# Altium footprint library VNA.PCBLIB: 50 footprints (part 1 of 4)
Each footprint in its own frame and in the unit in brackets; x right, y up, seen from the top. Pads: shape width x height; smd on the part's side, far side on the other; paste and mask are expansions set on the pad; w line width, h text height; cw(c..) or ccw(c..) is an arc to the next point about the centre after c.
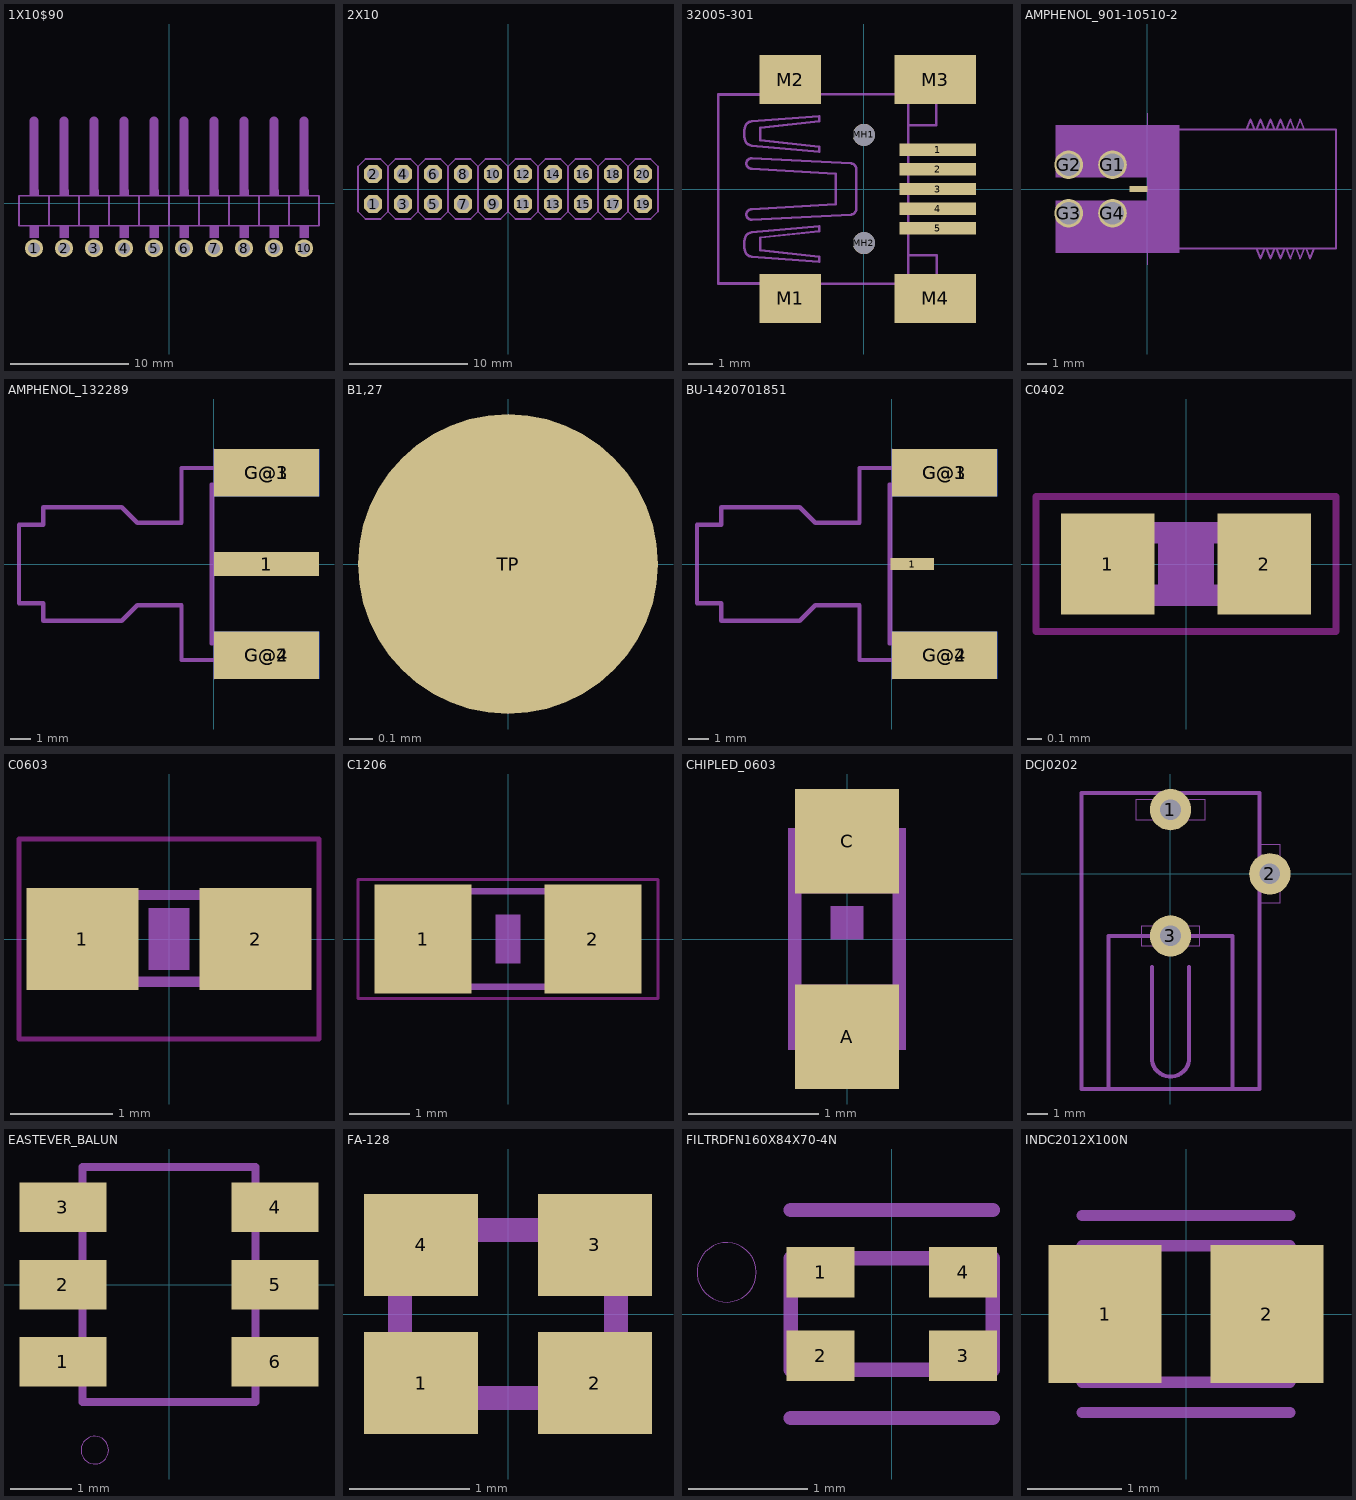
[diagram p0: the footprints below, top view; thin cyan lines are the x and y axes]

## 1X10$90 [mil]
pads (10):
  round 60 hole 40: 1(-450,-150) 2(-350,-150) 3(-250,-150) 4(-150,-150) 5(-50,-150) 6(50,-150) 7(150,-150) 8(250,-150) 9(350,-150) 10(450,-150)
tPlace:
  region: -465,25 -465,45 -435,45 -435,25
  region: -365,25 -365,45 -335,45 -335,25
  region: -265,25 -265,45 -235,45 -235,25
  region: -165,25 -165,45 -135,45 -135,25
  region: -65,25 -65,45 -35,45 -35,25
  region: 35,25 35,45 65,45 65,25
  region: 135,25 135,45 165,45 165,25
  region: 235,25 235,45 265,45 265,25
  region: 335,25 335,45 365,45 365,25
  region: 435,25 435,45 465,45 465,25
  region: -465,-115 -465,-75 -435,-75 -435,-115
  region: -365,-115 -365,-75 -335,-75 -335,-115
  region: -265,-115 -265,-75 -235,-75 -235,-115
  region: -165,-115 -165,-75 -135,-75 -135,-115
  region: -65,-115 -65,-75 -35,-75 -35,-115
  region: 35,-115 35,-75 65,-75 65,-115
  region: 135,-115 135,-75 165,-75 165,-115
  region: 235,-115 235,-75 265,-75 265,-115
  region: 335,-115 335,-75 365,-75 365,-115
  region: 435,-115 435,-75 465,-75 465,-115
  lines w6: -400,-75 -500,-75 -500,25 -400,25 ; -400,-75 -400,25 ; -400,-75 -300,-75 ; -400,25 -300,25 ; -300,-75 -300,25 ; -300,-75 -200,-75 ; -300,25 -200,25 ; -200,-75 -200,25 ; -200,-75 -100,-75 ; -200,25 -100,25 ; -100,-75 -100,25 ; -100,-75 0,-75 ; -100,25 0,25 ; 0,-75 0,25 ; 0,-75 100,-75 ; 0,25 100,25 ; 100,-75 100,25 ; 100,-75 200,-75 ; 100,25 200,25 ; 200,-75 200,25 ; 200,-75 300,-75 ; 200,25 300,25 ; 300,-75 300,25 ; 300,-75 400,-75 ; 300,25 400,25 ; 400,-75 400,25 ; 400,-75 500,-75 500,25 400,25
  lines w30: -450,50 -450,275 ; -350,50 -350,275 ; -250,50 -250,275 ; -150,50 -150,275 ; -50,50 -50,275 ; 50,50 50,275 ; 150,50 150,275 ; 250,50 250,275 ; 350,50 350,275 ; 450,50 450,275

## 2X10 [mil]
pads (20):
  oct 60x60 / inner round 55.43 / far side oct 60x60 hole 40: 1(-450,-50) 2(-450,50) 3(-350,-50) 4(-350,50) 5(-250,-50) 6(-250,50) 7(-150,-50) 8(-150,50) 9(-50,-50) 10(-50,50) 11(50,-50) 12(50,50) 13(150,-50) 14(150,50) 15(250,-50) 16(250,50) 17(350,-50) 18(350,50) 19(450,-50) 20(450,50)
tDocu:
  region: -460,-60 -460,-40 -440,-40 -440,-60
  region: -460,40 -460,60 -440,60 -440,40
  region: -360,40 -360,60 -340,60 -340,40
  region: -360,-60 -360,-40 -340,-40 -340,-60
  region: -260,40 -260,60 -240,60 -240,40
  region: -260,-60 -260,-40 -240,-40 -240,-60
  region: -160,40 -160,60 -140,60 -140,40
  region: -60,40 -60,60 -40,60 -40,40
  region: 40,40 40,60 60,60 60,40
  region: -160,-60 -160,-40 -140,-40 -140,-60
  region: -60,-60 -60,-40 -40,-40 -40,-60
  region: 40,-60 40,-40 60,-40 60,-60
  region: 140,40 140,60 160,60 160,40
  region: 140,-60 140,-40 160,-40 160,-60
  region: 240,40 240,60 260,60 260,40
  region: 240,-60 240,-40 260,-40 260,-60
  region: 340,40 340,60 360,60 360,40
  region: 340,-60 340,-40 360,-40 360,-60
  region: 440,40 440,60 460,60 460,40
  region: 440,-60 440,-40 460,-40 460,-60
tPlace:
  lines w6: -400,-75 -425,-100 -475,-100 -500,-75 -500,75 -475,100 -425,100 -400,75 ; -400,-75 -375,-100 -325,-100 -300,-75 ; -400,-75 -400,75 ; -400,75 -375,100 -325,100 -300,75 ; -300,-75 -275,-100 -225,-100 -200,-75 ; -300,-75 -300,75 ; -300,75 -275,100 -225,100 -200,75 ; -200,-75 -175,-100 -125,-100 -100,-75 ; -200,-75 -200,75 ; -200,75 -175,100 -125,100 -100,75 ; -100,-75 -75,-100 -25,-100 0,-75 ; -100,-75 -100,75 ; -100,75 -75,100 -25,100 0,75 ; 0,-75 25,-100 75,-100 100,-75 ; 0,-75 0,75 ; 0,75 25,100 75,100 100,75 ; 100,-75 125,-100 175,-100 200,-75 ; 100,-75 100,75 ; 100,75 125,100 175,100 200,75 ; 200,-75 225,-100 275,-100 300,-75 ; 200,-75 200,75 ; 200,75 225,100 275,100 300,75 ; 300,-75 325,-100 375,-100 400,-75 ; 300,-75 300,75 ; 300,75 325,100 375,100 400,75 ; 400,-75 400,75 ; 400,-75 425,-100 475,-100 500,-75 500,75 475,100 425,100 400,75

## 32005-301 [mm]
pads (11):
  rect 3.1x0.5 smd: 1(3,1.6) 2(3,0.8) 3(3,0) 4(3,-0.8) 5(3,-1.6)
  rect 2.5x2 smd: M1(-3,-4.45) M2(-3,4.45)
  rect 3.3x2 smd: M3(2.9,4.45) M4(2.9,-4.45)
  round 0.9 hole 0.9 unplated: MH1(0,2.2) MH2(0,-2.2)
tDocu:
  lines w0.102: -5.923,-3.847 3.16,-3.847 ; -5.923,3.847 3.16,3.847 ; -5.918,-3.841 -3.688,-3.841 -3.688,-4.88 -3.325,-4.88 -3.325,-4.464 -2.702,-4.464 -2.702,-4.88 -2.309,-4.88 -2.309,-3.841 ; -5.918,3.841 -3.688,3.841 -3.688,4.88 -3.325,4.88 -3.325,4.465 -2.702,4.465 -2.702,4.88 -2.309,4.88 -2.309,3.841 ; 1.713,-3.885 1.713,-4.88 2.128,-4.88 2.128,-4.464 2.647,-4.464 2.647,-4.88 3.163,-4.88 3.163,-3.852 ; 1.713,3.886 1.713,4.88 2.128,4.88 2.128,4.465 2.647,4.465 2.647,4.88 3.164,4.88 3.164,3.852 ; 1.81,-3.847 1.81,3.78 ; 2.94,2.599 2.94,3.797 ; 2.957,-3.822 2.957,-2.7
tPlace:
  lines w0.102: -5.923,-3.847 -5.923,3.847 ; -4.415,-3.841 -5.918,-3.841 ; -4.415,3.841 -5.918,3.841 -5.918,-3.841 ; -1.603,-3.847 1.084,-3.847 ; -1.552,3.847 0.983,3.847 ; 1.81,-3.324 1.81,-2.7 2.957,-2.7 2.957,-3.332 ; 1.81,3.324 1.81,2.599 2.94,2.599 2.94,3.324 ; -5.918,-3.841 -5.918,-3.841 ; -4.828,-2.544 ccw(c-4.546,-2.457) -4.568,-2.751 -1.817,-2.959 -1.817,-2.751 -4.205,-2.492 -4.205,-1.973 -1.817,-1.713 -1.817,-1.505 -4.568,-1.765 ccw(c-4.546,-2.059) -4.828,-1.973 ccw(c-3.897,-2.258) -4.828,-2.544 ; -4.828,1.973 cw(c-3.897,2.258) -4.828,2.544 cw(c-4.546,2.457) -4.568,2.751 -1.817,2.959 -1.817,2.751 -4.205,2.492 -4.205,1.973 -1.817,1.713 -1.817,1.505 -4.568,1.765 cw(c-4.546,2.059) -4.828,1.973 ; -4.776,-1.038 ccw(c-4.569,-1.038) -4.568,-1.246 -0.519,-1.038 ccw(c-0.531,-0.818) -0.312,-0.83 -0.312,0.831 ccw(c-0.531,0.819) -0.519,1.038 -4.568,1.246 ccw(c-4.569,1.038) -4.776,1.038 -4.776,1.038 ccw(c-4.569,1.038) -4.568,0.831 -1.142,0.623 -1.142,-0.623 -4.568,-0.83 ccw(c-4.568,-1.038) -4.776,-1.038

## AMPHENOL_901-10510-2 [mm]
pads (5):
  round 1.44 hole 1.14: G1(-1.75,1.22) G2(-3.96,1.22) G3(-3.96,-1.22) G4(-1.75,-1.22)
  rect 0.9x0.3 smd: S(-0.45,0)
Top Solder:
  region: -5.6,0.4 -5.6,4.1 0,4.1 0,0.4
  region: -5.6,-4.1 -5.6,-0.4 0,-0.4 0,-4.1
Dimension:
  lines w0: 0,-3.81 0,3.81
tDocu:
  region: 0,-3.2 0,3.2 1.6,3.2 1.6,-3.2
  region: -4.6,0.6 -4.6,3.2 0,3.2 0,0.6
  region: -4.6,-3.2 -4.6,-0.6 0,-0.6 0,-3.2
  lines w0.1: 0,-3 9.5,-3 9.5,1.5 9.5,3 5.4,3 ; 0,3 5,3 ; 5.5,-3 5.7,-3.5 5.9,-3 ; 5.5,3 5.7,3.5 5.9,3 ; 6,-3 6.2,-3.5 6.4,-3 ; 6,3 6.2,3.5 6.4,3 ; 6.5,-3 6.7,-3.5 6.9,-3 ; 6.5,3 6.7,3.5 6.9,3 ; 7,-3 7.2,-3.5 7.4,-3 ; 7,3 7.2,3.5 7.4,3 ; 7.5,-3 7.7,-3.5 7.9,-3 ; 7.5,3 7.7,3.5 7.9,3 ; 8,-3 8.2,-3.5 8.4,-3 ; 5,3 5.4,3 ; 5,3 5.2,3.5 5.4,3
  lines w0.25: -0.7,0 0,0

## AMPHENOL_132289 [mil]
pads (5):
  rect 200x45 smd: 1(101,0)
  rect 200x90 smd: G@1(101,174) G@2(101,-174)
  rect 200x90 smd far side: G@3(101,174) G@4(101,-174)
Dimension:
  lines w0: 0,-220 0,220
tDocu:
  region: -0.98,-19.69 -0.98,19.69 159.45,19.69 159.45,-19.69
  lines w8: -61.02,-183.07 183.07,-183.07 183.07,-151.57 -3.94,-151.57 ; -61.02,183.07 183.07,183.07 183.07,151.57 -3.94,151.57
tPlace:
  lines w8: -3.94,-183.07 -61.02,-183.07 -61.02,-78.74 -145.67,-78.74 -175.2,-108.27 -324.8,-108.27 -324.8,-74.8 -371.06,-74.8 -371.06,74.8 -324.8,74.8 -324.8,108.27 -175.2,108.27 -145.67,78.74 -61.02,78.74 -61.02,183.07 -3.94,183.07 ; -3.94,-151.57 -3.94,151.57

## B1,27 [mm]
pads (1):
  rrect100% 1.27x1.27 smd paste+0: TP(0,0)
tTest:
  lines w0.002: -0.635,0 0.635,0 ; 0,-0.635 0,0.635
  text ">TP_SIGNAL_NAME" at -0.635,-1.905 h1.55

## BU-1420701851 [mil]
pads (5):
  rect 82.68x23.62 smd: 1(39.37,0)
  rect 200x90 smd: G@1(101,174) G@2(101,-174)
  rect 200x90 smd far side: G@3(101,174) G@4(101,-174)
Dimension:
  lines w0: 0,-220 0,220
tDocu:
  region: -0.98,-9.84 -0.98,9.84 74.8,9.84 74.8,-9.84
  lines w8: -61.02,-183.07 183.07,-183.07 183.07,-151.57 -3.94,-151.57 ; -61.02,183.07 183.07,183.07 183.07,151.57 -3.94,151.57
tPlace:
  lines w8: -3.94,-183.07 -61.02,-183.07 -61.02,-78.74 -145.67,-78.74 -175.2,-108.27 -324.8,-108.27 -324.8,-74.8 -371.06,-74.8 -371.06,74.8 -324.8,74.8 -324.8,108.27 -175.2,108.27 -145.67,78.74 -61.02,78.74 -61.02,183.07 -3.94,183.07 ; -3.94,-151.57 -3.94,151.57

## C0402 [mm]
pads (2):
  rect 0.67x0.72 smd: 1(-0.56,0) 2(0.56,0)
Top keep-out:
  lines w0.051: -1.073,-0.483 1.073,-0.483 1.073,0.483 -1.073,0.483 -1.073,-0.483
tDocu:
  region: -0.554,-0.305 -0.554,0.295 -0.254,0.295 -0.254,-0.305
  region: 0.259,-0.305 0.259,0.295 0.559,0.295 0.559,-0.305
  lines w0.152: -0.245,-0.224 0.245,-0.224 ; -0.245,0.224 0.245,0.224
tGlue:
  region: -0.2,-0.3 -0.2,0.3 0.2,0.3 0.2,-0.3

## C0603 [mm]
pads (2):
  rect 1.1x1 smd: 1(-0.85,0) 2(0.85,0)
Top keep-out:
  lines w0.051: -1.473,-0.983 1.473,-0.983 ; -1.473,-0.983 -1.473,0.983 ; -1.473,-0.983 1.473,-0.983 ; -1.473,-0.983 -1.473,0.983 ; -1.473,0.983 1.473,0.983 ; -1.473,0.983 1.473,0.983 ; 1.473,-0.983 1.473,0.983 ; 1.473,-0.983 1.473,0.983
tDocu:
  region: -0.838,-0.47 -0.838,0.48 -0.338,0.48 -0.338,-0.47
  region: 0.33,-0.47 0.33,0.48 0.83,0.48 0.83,-0.47
  region: -0.838,-0.47 -0.838,0.48 -0.338,0.48 -0.338,-0.47
  region: 0.33,-0.47 0.33,0.48 0.83,0.48 0.83,-0.47
  lines w0.102: -0.356,-0.419 0.356,-0.419 -0.356,-0.419 ; -0.356,0.432 0.356,0.432 -0.356,0.432
tGlue:
  region: -0.2,-0.3 -0.2,0.3 0.2,0.3 0.2,-0.3
  region: -0.2,-0.3 -0.2,0.3 0.2,0.3 0.2,-0.3

## C1206 [mm]
pads (2):
  rect 1.6x1.8 smd: 1(-1.4,0) 2(1.4,0)
Top keep-out:
  lines w0.051: -2.473,-0.983 2.473,-0.983 2.473,0.983 -2.473,0.983 -2.473,-0.983
tDocu:
  region: -1.702,-0.851 -1.702,0.849 -0.952,0.849 -0.952,-0.851
  region: 0.952,-0.849 0.952,0.851 1.702,0.851 1.702,-0.849
  lines w0.102: -0.965,-0.787 0.965,-0.787 ; -0.965,0.787 0.965,0.787
tGlue:
  region: -0.2,-0.4 -0.2,0.4 0.2,0.4 0.2,-0.4

## CHIPLED_0603 [mil]
pads (2):
  rect 31.5x31.5 smd: A(0,-29.53) C(0,29.53)
tDocu:
  circle w2: c-13.78,24.61 r2.95
  region: -17.72,27.56 -17.72,33.46 -9.84,33.46 -9.84,27.56
  region: -10.83,21.65 -10.83,23.62 -8.86,23.62 -8.86,21.65
  region: -17.72,13.78 -17.72,28.54 -15.75,28.54 -15.75,13.78
  region: 9.84,21.65 9.84,33.46 17.72,33.46 17.72,21.65
  region: -17.72,13.78 -17.72,22.64 17.72,22.64 17.72,13.78
  region: -17.72,-33.46 -17.72,-13.78 -9.84,-13.78 -9.84,-33.46
  region: 9.84,-33.46 9.84,-13.78 17.72,-13.78 17.72,-33.46
  region: -10.83,-22.64 -10.83,-13.78 10.83,-13.78 10.83,-22.64
  region: -10.83,-25.59 -10.83,-21.65 -6.89,-21.65 -6.89,-25.59
  region: 6.89,-25.59 6.89,-21.65 10.83,-21.65 10.83,-25.59
  lines w2: -10.83,-32.48 cw(c0,-32.48) 10.83,-32.48
  lines w4: -15.75,-13.78 -15.75,14.76 ; -11.81,31.5 ccw(c0,32.53) 11.81,31.5 ; 15.75,-13.78 15.75,13.78
tPlace:
  region: -4.92,0 -4.92,9.84 4.92,9.84 4.92,0

## DCJ0202 [mm]
pads (3):
  round 2 hole 1: 1(0,3.1) 2(4.8,0) 3(0,-3)
Milling:
  lines w0: -1.65,2.6 1.65,2.6 1.65,3.6 -1.65,3.6 -1.65,2.6 ; -1.4,-3.5 1.4,-3.5 1.4,-2.5 -1.4,-2.5 -1.4,-3.5 ; 4.3,-1.4 4.3,1.4 5.3,1.4 5.3,-1.4 4.3,-1.4
tDocu:
  lines w0.203: -4.3,3.9 4.3,3.9 4.3,-10.4 ; -3,-10.275 -3,-3 3,-3 3,-10.3 ; -0.9,-4.5 -0.9,-9 ccw(c0,-8.894) 0.9,-9 0.9,-4.5
tPlace:
  lines w0.203: -2.7,3.9 -4.3,3.9 -4.3,-10.4 4.3,-10.4 4.3,-2.45 ; 2.7,3.9 4.3,3.9 4.3,2.3

## EASTEVER_BALUN [mm]
pads (6):
  rect 1.4x0.8 smd: 1(-1.715,-1.25) 2(-1.715,0) 3(-1.715,1.25) 4(1.715,1.25) 5(1.715,0) 6(1.715,-1.25)
tPlace:
  circle w0: c-1.2,-2.68 r0.224
  lines w0.127: -1.4,-1.9 1.4,-1.9 1.4,1.9 -1.4,1.9 -1.4,-1.9

## FA-128 [mm]
pads (4):
  rect 0.95x0.85 smd paste+0 mask+0: 1(-0.725,-0.575) 2(0.725,-0.575) 3(0.725,0.575) 4(-0.725,0.575)
Top Paste:
  region: -1.15,0.2 -1.15,0.95 -0.3,0.95 -0.3,0.2
  region: 0.3,0.2 0.3,0.95 1.15,0.95 1.15,0.2
  region: -1.15,-0.95 -1.15,-0.2 -0.3,-0.2 -0.3,-0.95
  region: 0.325,-0.475 0.575,-0.225 1.125,-0.225 1.125,-0.925 0.325,-0.925
Top Solder:
  region: -1.25,0.1 -1.25,1.05 -0.2,1.05 -0.2,0.1
  region: 0.2,0.1 0.2,1.05 1.25,1.05 1.25,0.1
  region: -1.25,-1.05 -1.25,-0.1 -0.2,-0.1 -0.2,-1.05
  region: 0.225,-1.025 0.225,-0.45 0.55,-0.125 1.225,-0.125 1.225,-1.025
tDocu:
  lines w0.203: -0.9,-0.7 0.9,-0.7 0.9,0.7 -0.9,0.7 -0.9,-0.7

## FILTRDFN160X84X70-4N [mm]
pads (4):
  rect 0.571x0.424 smd: 1(-0.6,0.35) 2(-0.6,-0.35) 3(0.6,-0.35) 4(0.6,0.35)
tDocu:
  lines w0.12: -0.85,-0.47 0.85,-0.47 0.85,0.47 -0.85,0.47 -0.85,-0.47
tPlace:
  circle w0: c-1.389,0.35 r0.25
  lines w0.12: -0.85,-0.876 0.85,-0.876 ; -0.85,0.876 0.85,0.876

## INDC2012X100N [mm]
pads (2):
  rect 1.196x1.465 smd: 1(-0.86,0) 2(0.86,0)
tDocu:
  lines w0.12: -1.1,-0.725 1.1,-0.725 1.1,0.725 -1.1,0.725 -1.1,-0.725
tPlace:
  lines w0.12: -1.1,-1.047 1.1,-1.047 ; -1.1,1.047 1.1,1.047